# EAGLE library part MAX4634 (library pixhawk2)
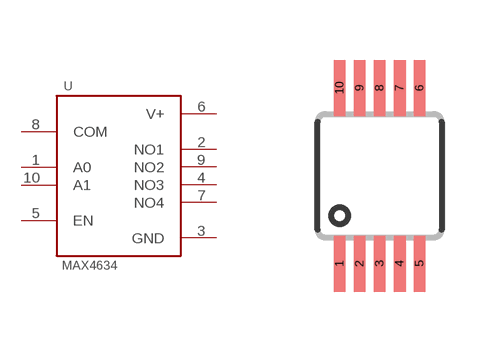
[diagram p52: symbol with the pads of TI-DGS; footprint TI-DGS]

Designator prefix -

## MAX4634  [TI-DGS]
1  A0  in
2  NO1
3  GND
4  NO3
5  EN  in
6  V+
7  NO4
8  COM
9  NO2
10  A1  in

## Footprint TI-DGS (pad centres in mm)
TI DGS / MAXIM 10L uMAX/uSOP 0.5 mm pin spacing, 5 mm pin span
smd 0.3 x 1.4: 1 -1,-2.2; 2 -0.5,-2.2; 3 0,-2.2; 4 0.5,-2.2; 5 1,-2.2; 6 1,2.2; 7 0.5,2.2; 8 0,2.2; 9 -0.5,2.2; 10 -1,2.2